# Altium footprint library Un_interruptable_power_supply_180534N_PCB_Library.PcbLib: 4 footprints
Each footprint in its own frame and in the unit in brackets; x right, y up, seen from the top. Pads: shape width x height; smd on the part's side, far side on the other; paste and mask are expansions set on the pad; w line width, h text height; cw(c..) or ccw(c..) is an arc to the next point about the centre after c.
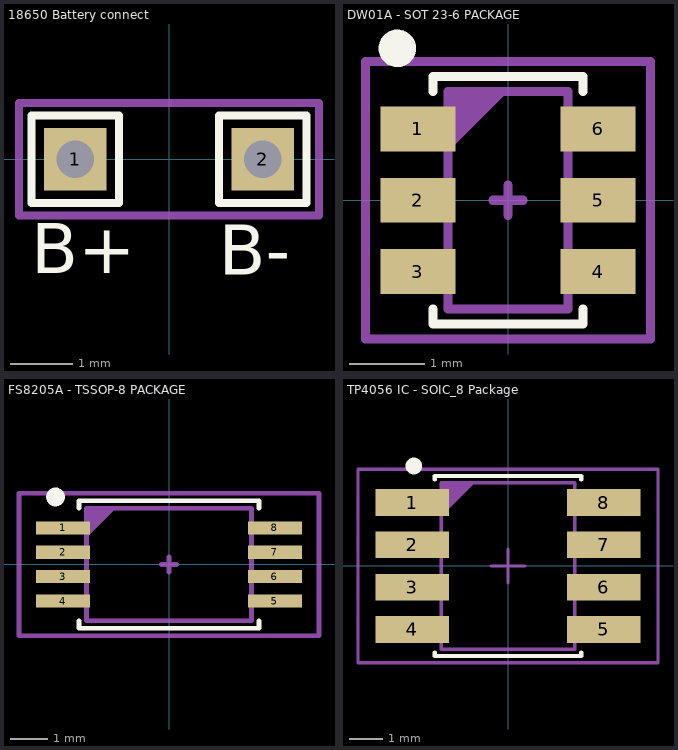
[diagram p0: the footprints below, top view; thin cyan lines are the x and y axes]

## 18650 Battery connect [mm]
pads (2):
  rect 1x1 hole 0.6: 1(-1.5,0) 2(1.5,0)
Top Overlay:
  lines w0.125: -2.2,-0.7 -0.8,-0.7 -0.8,0.7 -2.2,0.7 -2.2,-0.7 ; 0.8,-0.7 2.2,-0.7 2.2,0.7 0.8,0.7 0.8,-0.7
  text "B-" at 0.8,-1.85 h0.8
  text "B+" at -2.2,-1.825 h0.8
Top Courtyard:
  lines w0.125: -2.4,-0.9 -2.4,0.9 2.4,0.9 2.4,-0.9 -2.4,-0.9

## DW01A - SOT 23-6 PACKAGE [mm]
height 1.75
pads (6):
  rect 1x0.6 smd: 1(-1.2,0.95) 2(-1.2,0) 3(-1.2,-0.95) 4(1.2,-0.95) 5(1.2,0) 6(1.2,0.95)
Top Overlay:
  circle w0.25: c-1.475,2.025 r0.125
  lines w0.125: -1,-1.45 -1,-1.65 1,-1.65 1,-1.45 ; -1,1.45 -1,1.65 1,1.65 1,1.45
Top Assembly:
  region: -0.8,1.45 -0.8,0.65 0,1.45
  lines w0.125: -0.8,-1.45 0.8,-1.45 0.8,1.45 -0.8,1.45 -0.8,-1.45
Top Courtyard:
  lines w0.125: -0.2,0 0.2,0 ; 0,-0.2 0,0.2 ; -1.9,-1.85 1.9,-1.85 1.9,1.85 -1.9,1.85 -1.9,-1.85
3D body "sot-23-6.stp": height 1.12, standoff 0.01, extent -1.422,-1.46 1.423,1.461

## FS8205A - TSSOP-8 PACKAGE [mm]
pads (8):
  rect 1.45x0.35 smd: 1(-2.825,0.975) 2(-2.825,0.325) 3(-2.825,-0.325) 4(-2.825,-0.975) 5(2.825,-0.975) 6(2.825,-0.325) 7(2.825,0.325) 8(2.825,0.975)
Top Overlay:
  circle w0.25: c-3.025,1.8 r0.125
  lines w0.125: -2.4,-1.5 -2.4,-1.7 2.4,-1.7 2.4,-1.5 ; -2.4,1.5 -2.4,1.7 2.4,1.7 2.4,1.5
Top Assembly:
  region: -2.2,1.5 -2.2,0.725 -1.425,1.5
  lines w0.125: -2.2,-1.5 -2.2,1.5 2.2,1.5 2.2,-1.5 -2.2,-1.5
Top Courtyard:
  lines w0.125: -0.2,0 0.2,0 ; 0,-0.2 0,0.2 ; -4,-1.9 -4,1.9 4,1.9 4,-1.9 -4,-1.9
3D body "tssop8_model.STEP": height 1.06, standoff -0.04, extent -3.197,-1.513 3.202,1.487

## TP4056 IC - SOIC_8 Package [mm]
height 1.75
pads (8):
  rect 2.2x0.8 smd: 1(-2.87,1.905) 2(-2.87,0.635) 3(-2.87,-0.635) 4(-2.87,-1.905) 5(2.87,-1.905) 6(2.87,-0.635) 7(2.87,0.635) 8(2.87,1.905)
Top Overlay:
  circle w0.25: c-2.825,3 r0.125
  lines w0.125: -2.2,-2.6 -2.2,-2.7 2.2,-2.7 2.2,-2.6 ; -2.2,2.6 -2.2,2.7 2.2,2.7 2.2,2.6
Top Assembly:
  region: -2,2.5 -2,1.5 -1,2.5
  lines w0.1: -2,-2.5 2,-2.5 2,2.5 -2,2.5 -2,-2.5
Top Courtyard:
  lines w0.1: -0.5,0 0.5,0 ; 0,-0.5 0,0.5 ; -4.5,-2.9 4.5,-2.9 4.5,2.9 -4.5,2.9 -4.5,-2.9
3D body "8SIOC.stp": height 1.95, standoff 0, extent -3.099,-2.502 3.099,2.502